# Altium footprint library Panasonic_C_Case.PcbLib: 1 footprints
Each footprint in its own frame and in the unit in brackets; x right, y up, seen from the top. Pads: shape width x height; smd on the part's side, far side on the other; paste and mask are expansions set on the pad; w line width, h text height; cw(c..) or ccw(c..) is an arc to the next point about the centre after c.
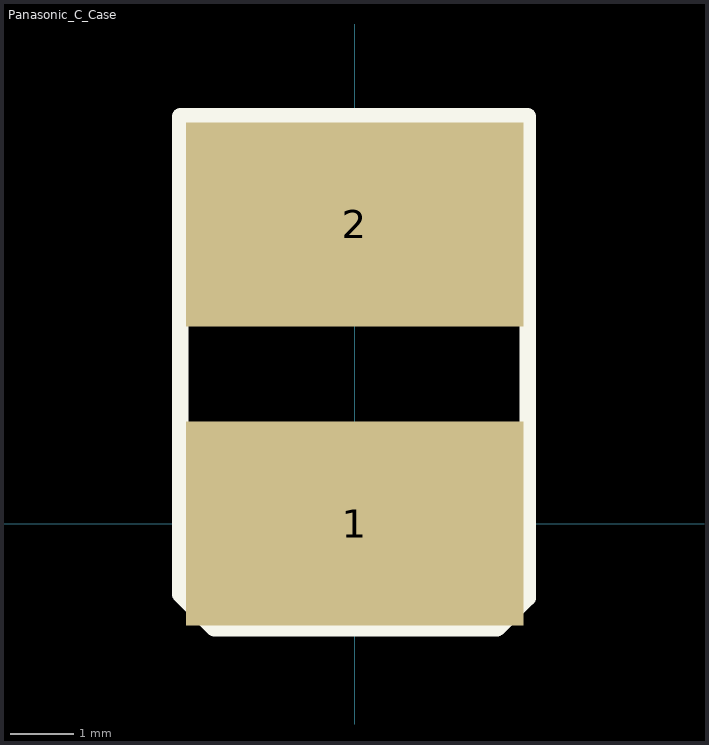
[diagram p0: the footprint, top view; thin cyan lines are the x and y axes]

## Panasonic_C_Case [mm] "5mm diameter electrolytic capacitor"
pads (2):
  rect 5.3x3.2 smd: 1(0,0) 2(0,4.7)
Top Overlay:
  lines w0.254: -2.743,6.375 -2.743,-1.118 -2.21,-1.651 2.235,-1.651 2.718,-1.168 2.718,6.401 -2.743,6.401